# Altium schematic symbol library MAX809REXR+.SchLib: 1 symbol
Pins are listed as number, name and electrical type; pins without a type are passive.

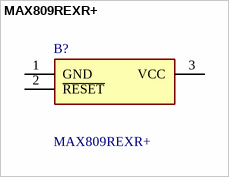
[diagram p0: symbol MAX809REXR+]

## MAX809REXR+
designator B?
Supervisor Push-Pull, Totem Pole 1 Channel SC-70-3; Manufacturer_Name: Analog Devices; Geometry.Height: 1.1mm; Manufacturer_Part_Number: MAX809REXR+; Mouser Part Number: *; Mouser Price/Stock: *; Arrow Part Number: *; Arrow Price/Stock: *; Datasheet Link: https://www.analog.com/media/en/technical-documentation/data-sheets/MAX803-MAX810Z.pdf
footprint SOT65P210X110-3N
pins: 1 GND, 2 ~{RESET}, 3 VCC